# EAGLE library part 691701540006B (library Wuerth_Elektronik_eiCan_Terminal_Blocks_v2.0)
WR-TBL SERIE 7015B 5.08MM CLOSED HORIZONTAL PCB HEADER THR TYPE
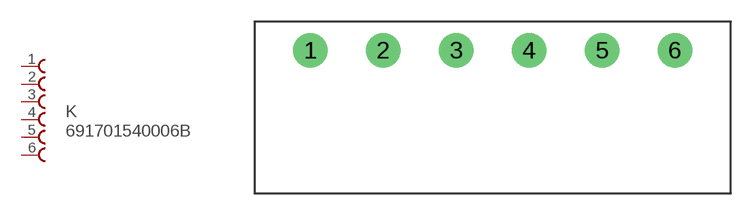
[diagram p381: symbol with the pads of 691701540006B; footprint 691701540006B]

Designator prefix K

## 691701540006B  [691701540006B]
1  1  pas
2  2  pas
3  3  pas
4  4  pas
5  5  pas
6  6  pas

## Footprint 691701540006B (pad centres in mm)
WR-TBL SERIE 7015B 5.08MM CLOSED HORIZONTAL PCB HEADER THR TYPE
drill 1.6 round: 1 0,0; 2 5.08,0; 3 10.16,0; 4 15.24,0; 5 20.32,0; 6 25.4,0